# EAGLE library part LPS25H (library STMicroelectrionics)
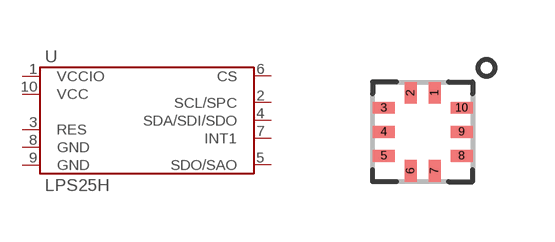
[diagram p4: symbol with the pads of LPS25H; footprint LPS25H]

Designator prefix U

## LPS25H  [LPS25H]
1  VCCIO
2  SCL/SPC
3  RES
4  SDA/SDI/SDO
5  SDO/SAO
6  CS
7  INT1
8  GND
9  GND
10  VCC

## Footprint LPS25H (pad centres in mm)
smd 0.3 x 0.55: 1 0.3,0.975; 2 -0.3,0.975; 6 -0.3,-0.975; 7 0.3,-0.975
smd 0.55 x 0.3: 3 -0.975,0.6; 4 -0.975,0; 5 -0.975,-0.6; 8 0.975,-0.6; 9 0.975,0; 10 0.975,0.6